# EAGLE library part 68HC908GP32-PDIP40 (library nitron)
Freescale 68HC908GP32 processor - PDIP Package
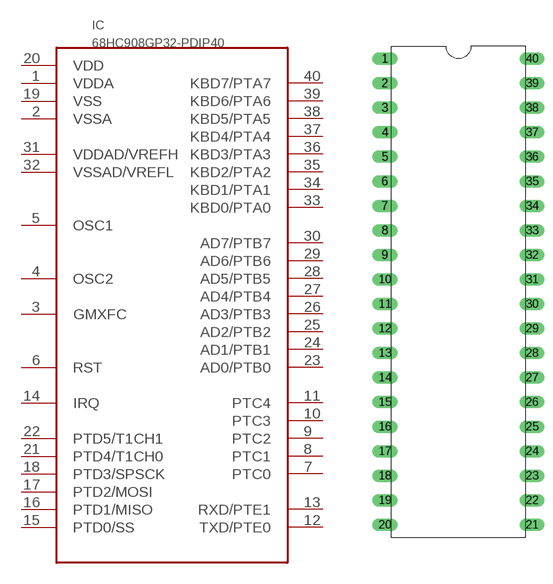
[diagram p1: symbol with the pads of PDIP-32; footprint PDIP-32]

Designator prefix IC

## 68HC908GP32-PDIP40  [PDIP-32]
1  VDDA
2  VSSA
3  GMXFC
4  OSC2
5  OSC1
6  RST
7  PTC0
8  PTC1
9  PTC2
10  PTC3
11  PTC4
12  TXD/PTE0
13  RXD/PTE1
14  IRQ
15  PTD0/SS
16  PTD1/MISO
17  PTD2/MOSI
18  PTD3/SPSCK
19  VSS  pwr
20  VDD  pwr
21  PTD4/T1CH0
22  PTD5/T1CH1
23  AD0/PTB0
24  AD1/PTB1
25  AD2/PTB2
26  AD3/PTB3
27  AD4/PTB4
28  AD5/PTB5
29  AD6/PTB6
30  AD7/PTB7
31  VDDAD/VREFH
32  VSSAD/VREFL
33  KBD0/PTA0
34  KBD1/PTA1
35  KBD2/PTA2
36  KBD3/PTA3
37  KBD4/PTA4
38  KBD5/PTA5
39  KBD6/PTA6
40  KBD7/PTA7

## Footprint PDIP-32 (pad centres in mm)
drill 0.8 long: 1 -7.62,24.13; 2 -7.62,21.59; 3 -7.62,19.05; 4 -7.62,16.51; 5 -7.62,13.97; 6 -7.62,11.43; 7 -7.62,8.89; 8 -7.62,6.35; 9 -7.62,3.81; 10 -7.62,1.27; 11 -7.62,-1.27; 12 -7.62,-3.81; 13 -7.62,-6.35; 14 -7.62,-8.89; 15 -7.62,-11.43; 16 -7.62,-13.97; 17 -7.62,-16.51; 18 -7.62,-19.05; 19 -7.62,-21.59; 20 -7.62,-24.13; 21 7.62,-24.13; 22 7.62,-21.59; 23 7.62,-19.05; 24 7.62,-16.51; 25 7.62,-13.97; 26 7.62,-11.43; 27 7.62,-8.89; 28 7.62,-6.35; 29 7.62,-3.81; 30 7.62,-1.27; 31 7.62,1.27; 32 7.62,3.81; 33 7.62,6.35; 34 7.62,8.89; 35 7.62,11.43; 36 7.62,13.97; 37 7.62,16.51; 38 7.62,19.05; 39 7.62,21.59; 40 7.62,24.13